# EAGLE library part AT25DF321A-S3H-T (library GEN_WIP_MASTERLIB)
IC FLASH 32MBIT 100MHZ 8SOIC
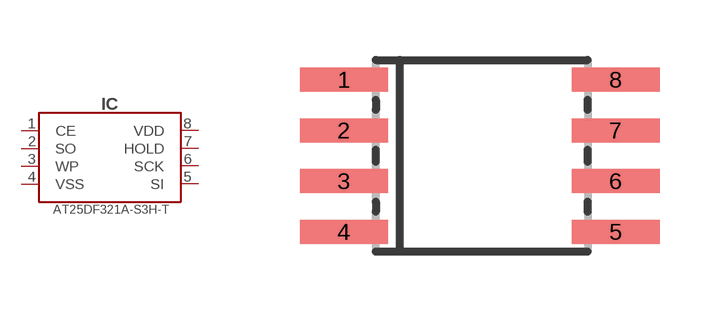
[diagram p4: symbol with the pads of SOIC8-300MIL; footprint SOIC8-300MIL]

Designator prefix IC

## AT25DF321A-S3H-T_ (DIGIKEY#: 1265-1077-1-ND; MANF: Adesto Technologies; MANF#: AT25DF321A-SH-T)  [SOIC8-300MIL]
1  CE
2  SO
3  WP
4  VSS
5  SI  out
6  SCK
7  HOLD
8  VDD

## Footprint SOIC8-300MIL (pad centres in mm)
Small Outline IC
smd 2.2 x 0.6: 1 -3.45,1.905; 2 -3.45,0.635; 3 -3.45,-0.635; 4 -3.45,-1.905; 5 3.35,-1.905; 6 3.35,-0.635; 7 3.35,0.635; 8 3.35,1.905